# EAGLE library part BQ5105XB (library lio)
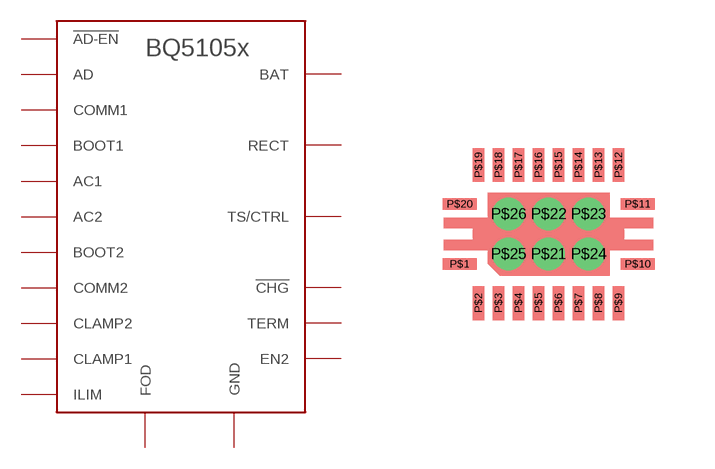
[diagram p21: symbol with the pads of BQ5105XB-PVQFN; footprint BQ5105XB-PVQFN]

Designator prefix -

## BQ5105XBRHL  [BQ5105XB-PVQFN]
P$1  GND  sup
P$2  AC1  in
P$3  BOOT1  out
P$4  BAT  pwr
P$5  CLAMP1  oc
P$6  COMM1  oc
P$7  !CHG  oc
P$8  !AD-EN
P$9  AD  in
P$10  TERM  in
P$11  EN2  in
P$12  ILIM
P$13  TS/CTRL  in
P$14  FOD  in
P$15  COMM2  oc
P$16  CLAMP2  oc
P$17  BOOT2  out
P$18  RECT  out
P$19  AC2  in
P$20  GND  sup

## Footprint BQ5105XB-PVQFN (pad centres in mm)
smd 0.85 x 0.28: P$1 -2.225,-0.75; P$10 2.225,-0.75; P$11 2.225,0.75; P$20 -2.225,0.75
smd 0.28 x 0.85: P$2 -1.75,-1.725; P$3 -1.25,-1.725; P$4 -0.75,-1.725; P$5 -0.25,-1.725; P$6 0.25,-1.725; P$7 0.75,-1.725; P$8 1.25,-1.725; P$9 1.75,-1.725; P$12 1.75,1.725; P$13 1.25,1.725; P$14 0.75,1.725; P$15 0.25,1.725; P$16 -0.25,1.725; P$17 -0.75,1.725; P$18 -1.25,1.725; P$19 -1.75,1.725
drill 0.305: P$21 0,-0.5; P$22 0,0.5; P$23 1,0.5; P$24 1,-0.5; P$25 -1,-0.5; P$26 -1,0.5